# Altium footprint library Stamp_hole.PcbLib: 1 footprints
Each footprint in its own frame and in the unit in brackets; x right, y up, seen from the top. Pads: shape width x height; smd on the part's side, far side on the other; paste and mask are expansions set on the pad; w line width, h text height; cw(c..) or ccw(c..) is an arc to the next point about the centre after c.
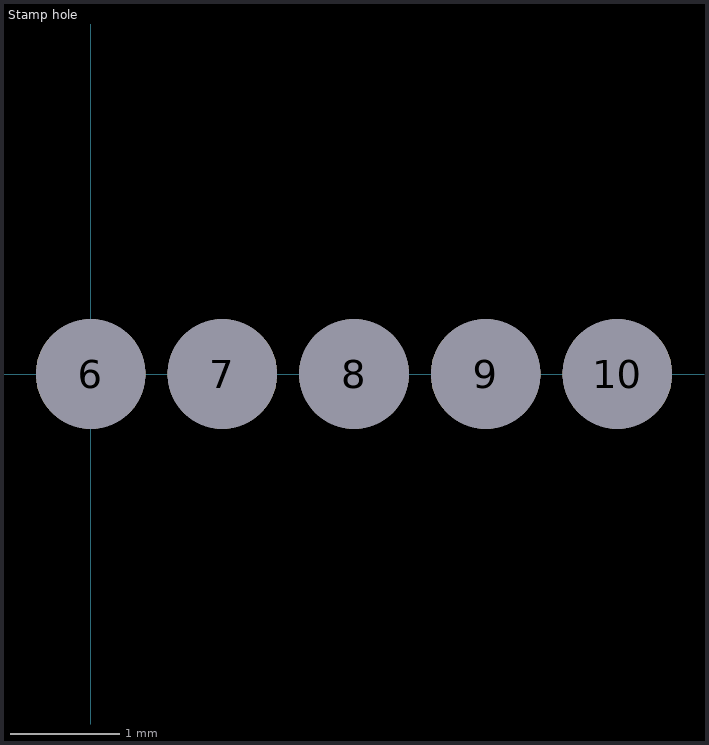
[diagram p0: the footprint, top view; thin cyan lines are the x and y axes]

## Stamp hole [mm]
pads (5):
  round 1 hole 1: 6(0,0) 7(1.2,0) 8(2.4,0) 9(3.6,0) 10(4.8,0)